# Altium integrated library TI Amplifiers and Linear Special Function Amplifier.IntLib: 708 symbols (part 15 of 47)
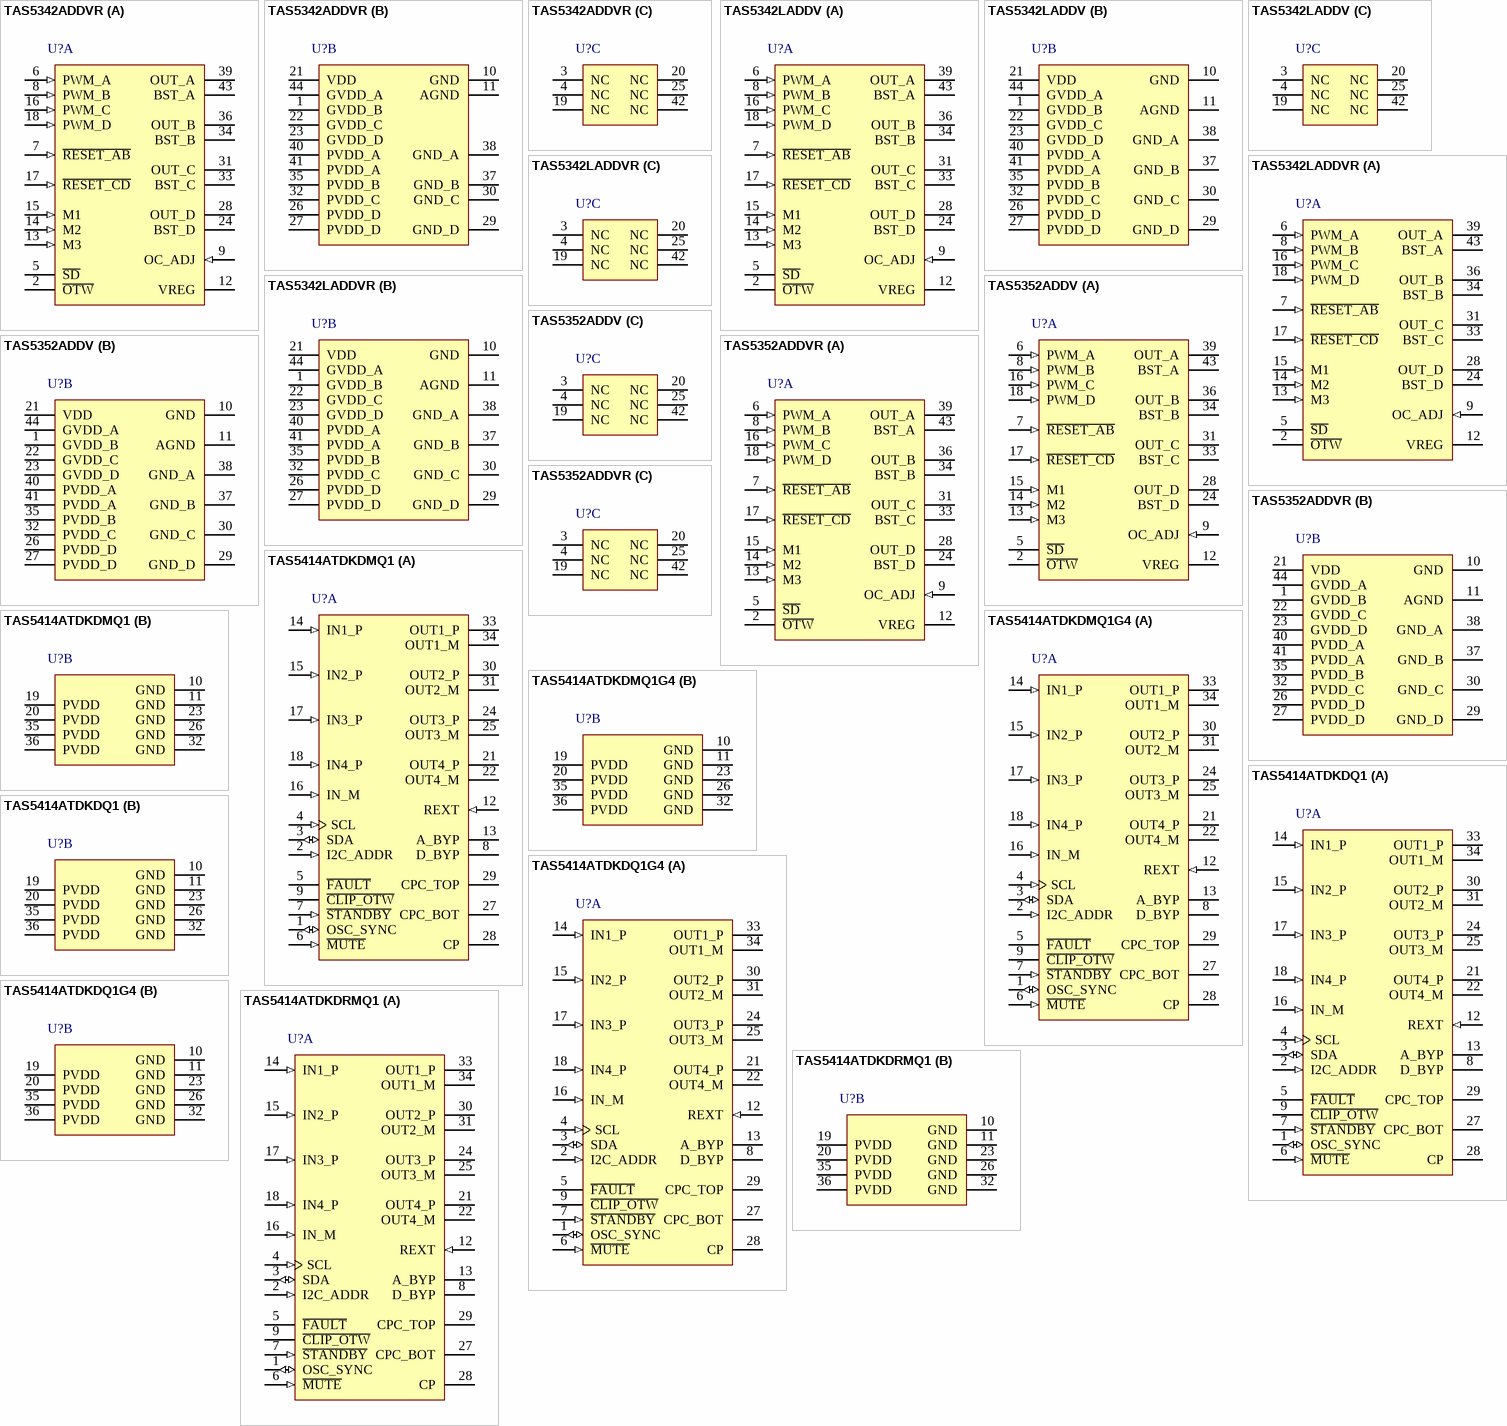
[diagram p53: symbols TAS5342ADDVR to TAS5414ATDKDRMQ1]

## TAS5414ATDKDQ1G4
designator U?
4-Channel Automotive Digital Amplifier, -40 to 105 degC, 36-pin SOP (DKD36), Green (RoHS & no Sb/Br); Manufacturer: Texas Instruments; PartNumber: TAS5414ATDKDQ1G4; Analog Supply Max [V]: 26.5; Analog Supply Min [V]: 6; Input Type: Analog; Max. Number of Speaker Outputs: 4; SubFamily: Mid/High-Power Amplifier; DatasheetVersion: SLOS535C; PackageVersion: 4204421-2/K, 06/2012; PackageReference: DKD36; PackageDescription: 36-Pin Plastic Small Outline, Body 15.9 x 11 mm, Pitch 0.65 mm; Supplier 1: Digi-Key; Supplier Part Number 1: TAS5414ATDKDQ1G4-ND; Supplier 2: Mouser; Supplier Part Number 2: 595-TAS5414ATDKDQ1G4; Eco-Plan: Green (RoHS & no Sb/Br); Power Stage Supply Min(V): 6; Mounting Technology: Surface Mount; ComponentLink1Description: Manufacturer URL; ComponentLink1URL: http://www.ti.com/; ComponentLink2Description: Datasheet; ComponentLink2URL: http://www.ti.com/general/docs/lit/getliterature.tsp?genericPartNumber=TAS5414A&fileType=pdf; ComponentLink3Description: Package Specification; ComponentLink3URL: http://www.ti.com/lit/ds/symlink/tas5121i.pdf
footprint TI-DKD36_N (SOP, 36-Leads, Body 16x11.1mm, Pitch 0.65mm, IPC Medium Density)
footprint TI-DKD36_L (SOP, 36-Leads, Body 16x11.1mm, Pitch 0.65mm, IPC High Density)
footprint TI-DKD36_M (SOP, 36-Leads, Body 16x11.1mm, Pitch 0.65mm, IPC Low Density)
part A pins: 1 OSC_SYNC (io) "Oscillator sync input from master or output to slave amplifiers (20 MHz divided by 5, 6, or 7)", 2 I2C_ADDR (in) "I2C address bit", 3 SDA (io) "I2C data I/O for communication with system I2C master", 4 SCL (in) "I2C clock input from system I2C master", 5 ~{FAULT} (oc) "Global fault output (open drain): UV, OV, OTSD, OCSD, DC", 6 ~{MUTE} (in) "Gain ramp control: mute (low), play (high)", 7 ~{STANDBY} (in) "Active-low STANDBY pin. Standby (low), power up (high)", 8 D_BYP "Bypass pin for DVDD regulator output", 9 ~{CLIP_OTW} (oc) "Open-drain CLIP, OTW, or logical OR of the CLIP and OTW outputs. It also reports tweeter detection during tweeter mode.", 12 REXT (in) "Precision resistor pin to set analog reference", 13 A_BYP "Bypass pin for the AVDD analog regulator", 14 IN1_P (in) "Non-inverting analog input for channel 1", 15 IN2_P (in) "Non-inverting analog input for channel 2", 16 IN_M (in) "Signal return for the 4 analog channel inputs (TAS5414A only)", 17 IN3_P (in) "Non-inverting analog input for channel 3", 18 IN4_P (in) "Non-inverting analog input for channel 4", 21 OUT4_P (hiz) "+ polarity output for bridge 4", 22 OUT4_M (hiz) "- polarity output for bridge 4", 24 OUT3_P (hiz) "+ polarity output for bridge 3", 25 OUT3_M (hiz) "- polarity output for bridge 3", 27 CPC_BOT "Bottom of flying capacitor for charge pump", 28 CP "Top of main storage capacitor for charge pump (bottom goes to PVDD)", 29 CPC_TOP "Top of flying capacitor for charge pump", 30 OUT2_P (hiz) "+ polarity output for bridge 2", 31 OUT2_M (hiz) "- polarity output for bridge 2", 33 OUT1_P (hiz) "+ polarity output for bridge 1", 34 OUT1_M (hiz) "- polarity output for bridge 1"
part B pins: 10 GND (power) "Ground", 11 GND (power) "Ground", 19 PVDD (power) "PVDD supply", 20 PVDD (power) "PVDD supply", 23 GND (power) "Ground", 26 GND (power) "Ground", 32 GND (power) "Ground", 35 PVDD (power) "PVDD supply", 36 PVDD (power) "PVDD supply"

## TAS5414ATDKDRMQ1
designator U?
4-Channel Automotive Digital Amplifier, -40 to 105 degC, 36-pin SOP (DKD36), Green (RoHS & no Sb/Br); Manufacturer: Texas Instruments; PartNumber: TAS5414ATDKDRMQ1; Analog Supply Max [V]: 26.5; Analog Supply Min [V]: 6; Input Type: Analog; Max. Number of Speaker Outputs: 4; SubFamily: Mid/High-Power Amplifier; DatasheetVersion: SLOS535C; PackageVersion: 4204421-2/K, 06/2012; PackageReference: DKD36; PackageDescription: 36-Pin Plastic Small Outline, Body 15.9 x 11 mm, Pitch 0.65 mm; Supplier 1: Digi-Key; Supplier Part Number 1: TAS5414ATDKDRMQ1-ND; Supplier 2: Mouser; Supplier Part Number 2: 595-TAS5414ATDKDRMQ1; Eco-Plan: Green (RoHS & no Sb/Br); Power Stage Supply Min(V): 6; Mounting Technology: Surface Mount; ComponentLink1Description: Manufacturer URL; ComponentLink1URL: http://www.ti.com/; ComponentLink2Description: Datasheet; ComponentLink2URL: http://www.ti.com/general/docs/lit/getliterature.tsp?genericPartNumber=TAS5414A&fileType=pdf; ComponentLink3Description: Package Specification; ComponentLink3URL: http://www.ti.com/lit/ds/symlink/tas5121i.pdf
footprint TI-DKD36_N (SOP, 36-Leads, Body 16x11.1mm, Pitch 0.65mm, IPC Medium Density)
footprint TI-DKD36_L (SOP, 36-Leads, Body 16x11.1mm, Pitch 0.65mm, IPC High Density)
footprint TI-DKD36_M (SOP, 36-Leads, Body 16x11.1mm, Pitch 0.65mm, IPC Low Density)
part A pins: 1 OSC_SYNC (io) "Oscillator sync input from master or output to slave amplifiers (20 MHz divided by 5, 6, or 7)", 2 I2C_ADDR (in) "I2C address bit", 3 SDA (io) "I2C data I/O for communication with system I2C master", 4 SCL (in) "I2C clock input from system I2C master", 5 ~{FAULT} (oc) "Global fault output (open drain): UV, OV, OTSD, OCSD, DC", 6 ~{MUTE} (in) "Gain ramp control: mute (low), play (high)", 7 ~{STANDBY} (in) "Active-low STANDBY pin. Standby (low), power up (high)", 8 D_BYP "Bypass pin for DVDD regulator output", 9 ~{CLIP_OTW} (oc) "Open-drain CLIP, OTW, or logical OR of the CLIP and OTW outputs. It also reports tweeter detection during tweeter mode.", 12 REXT (in) "Precision resistor pin to set analog reference", 13 A_BYP "Bypass pin for the AVDD analog regulator", 14 IN1_P (in) "Non-inverting analog input for channel 1", 15 IN2_P (in) "Non-inverting analog input for channel 2", 16 IN_M (in) "Signal return for the 4 analog channel inputs (TAS5414A only)", 17 IN3_P (in) "Non-inverting analog input for channel 3", 18 IN4_P (in) "Non-inverting analog input for channel 4", 21 OUT4_P (hiz) "+ polarity output for bridge 4", 22 OUT4_M (hiz) "- polarity output for bridge 4", 24 OUT3_P (hiz) "+ polarity output for bridge 3", 25 OUT3_M (hiz) "- polarity output for bridge 3", 27 CPC_BOT "Bottom of flying capacitor for charge pump", 28 CP "Top of main storage capacitor for charge pump (bottom goes to PVDD)", 29 CPC_TOP "Top of flying capacitor for charge pump", 30 OUT2_P (hiz) "+ polarity output for bridge 2", 31 OUT2_M (hiz) "- polarity output for bridge 2", 33 OUT1_P (hiz) "+ polarity output for bridge 1", 34 OUT1_M (hiz) "- polarity output for bridge 1"
part B pins: 10 GND (power) "Ground", 11 GND (power) "Ground", 19 PVDD (power) "PVDD supply", 20 PVDD (power) "PVDD supply", 23 GND (power) "Ground", 26 GND (power) "Ground", 32 GND (power) "Ground", 35 PVDD (power) "PVDD supply", 36 PVDD (power) "PVDD supply"

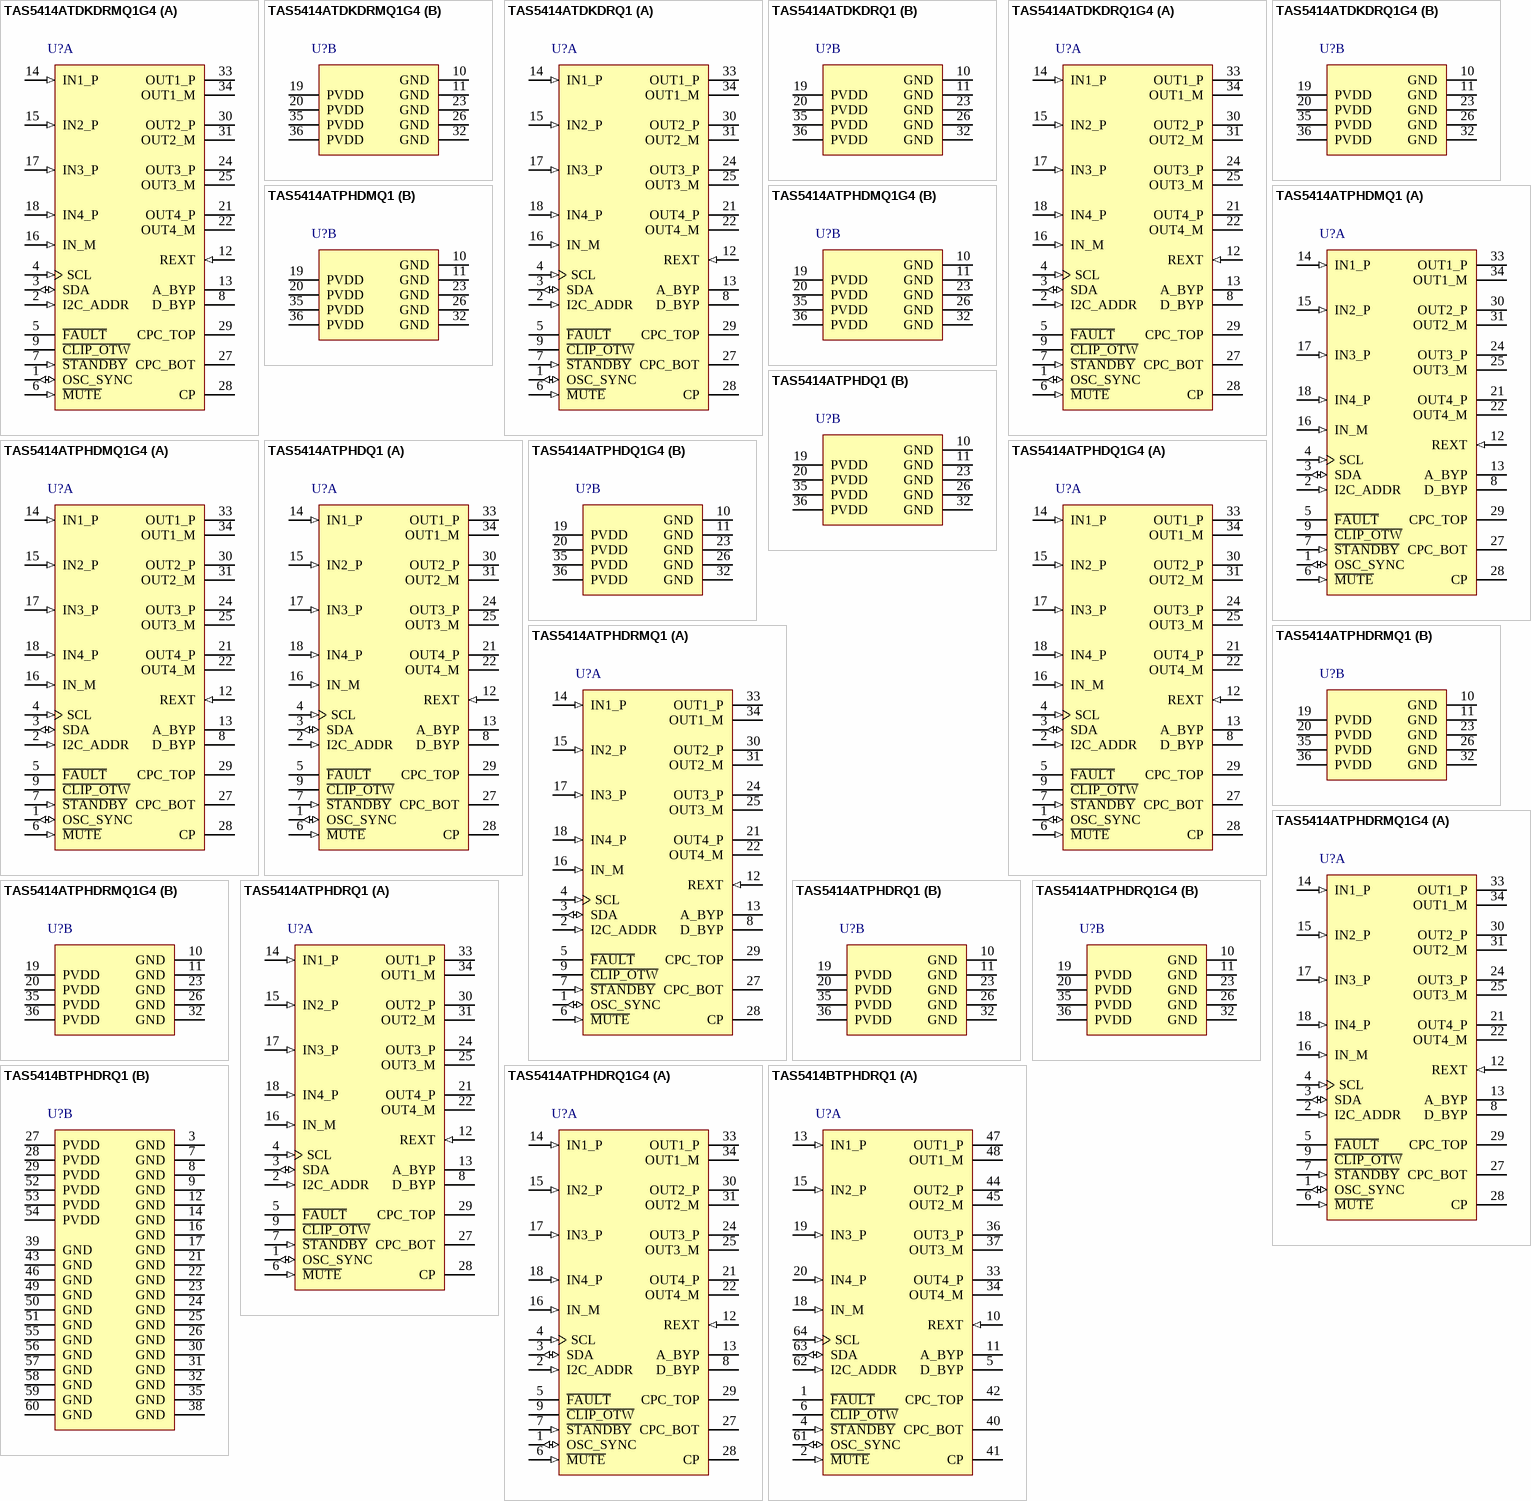
[diagram p14: symbols TAS5414ATDKDRMQ1G4 to TAS5414BTPHDRQ1]

## TAS5414ATDKDRMQ1G4
designator U?
4-Channel Automotive Digital Amplifier, -40 to 105 degC, 36-pin SOP (DKD36), Green (RoHS & no Sb/Br); Manufacturer: Texas Instruments; PartNumber: TAS5414ATDKDRMQ1G4; Analog Supply Max [V]: 26.5; Analog Supply Min [V]: 6; Input Type: Analog; Max. Number of Speaker Outputs: 4; SubFamily: Mid/High-Power Amplifier; DatasheetVersion: SLOS535C; PackageVersion: 4204421-2/K, 06/2012; PackageReference: DKD36; PackageDescription: 36-Pin Plastic Small Outline, Body 15.9 x 11 mm, Pitch 0.65 mm; Supplier 1: Digi-Key; Supplier Part Number 1: TAS5414ATDKDRMQ1G4-ND; Supplier 2: Mouser; Supplier Part Number 2: 595-T5414ATDKDRMQ1G4; Eco-Plan: Green (RoHS & no Sb/Br); Power Stage Supply Min(V): 6; Mounting Technology: Surface Mount; ComponentLink1Description: Manufacturer URL; ComponentLink1URL: http://www.ti.com/; ComponentLink2Description: Datasheet; ComponentLink2URL: http://www.ti.com/general/docs/lit/getliterature.tsp?genericPartNumber=TAS5414A&fileType=pdf; ComponentLink3Description: Package Specification; ComponentLink3URL: http://www.ti.com/lit/ds/symlink/tas5121i.pdf
footprint TI-DKD36_N (SOP, 36-Leads, Body 16x11.1mm, Pitch 0.65mm, IPC Medium Density)
footprint TI-DKD36_L (SOP, 36-Leads, Body 16x11.1mm, Pitch 0.65mm, IPC High Density)
footprint TI-DKD36_M (SOP, 36-Leads, Body 16x11.1mm, Pitch 0.65mm, IPC Low Density)
part A pins: 1 OSC_SYNC (io) "Oscillator sync input from master or output to slave amplifiers (20 MHz divided by 5, 6, or 7)", 2 I2C_ADDR (in) "I2C address bit", 3 SDA (io) "I2C data I/O for communication with system I2C master", 4 SCL (in) "I2C clock input from system I2C master", 5 ~{FAULT} (oc) "Global fault output (open drain): UV, OV, OTSD, OCSD, DC", 6 ~{MUTE} (in) "Gain ramp control: mute (low), play (high)", 7 ~{STANDBY} (in) "Active-low STANDBY pin. Standby (low), power up (high)", 8 D_BYP "Bypass pin for DVDD regulator output", 9 ~{CLIP_OTW} (oc) "Open-drain CLIP, OTW, or logical OR of the CLIP and OTW outputs. It also reports tweeter detection during tweeter mode.", 12 REXT (in) "Precision resistor pin to set analog reference", 13 A_BYP "Bypass pin for the AVDD analog regulator", 14 IN1_P (in) "Non-inverting analog input for channel 1", 15 IN2_P (in) "Non-inverting analog input for channel 2", 16 IN_M (in) "Signal return for the 4 analog channel inputs (TAS5414A only)", 17 IN3_P (in) "Non-inverting analog input for channel 3", 18 IN4_P (in) "Non-inverting analog input for channel 4", 21 OUT4_P (hiz) "+ polarity output for bridge 4", 22 OUT4_M (hiz) "- polarity output for bridge 4", 24 OUT3_P (hiz) "+ polarity output for bridge 3", 25 OUT3_M (hiz) "- polarity output for bridge 3", 27 CPC_BOT "Bottom of flying capacitor for charge pump", 28 CP "Top of main storage capacitor for charge pump (bottom goes to PVDD)", 29 CPC_TOP "Top of flying capacitor for charge pump", 30 OUT2_P (hiz) "+ polarity output for bridge 2", 31 OUT2_M (hiz) "- polarity output for bridge 2", 33 OUT1_P (hiz) "+ polarity output for bridge 1", 34 OUT1_M (hiz) "- polarity output for bridge 1"
part B pins: 10 GND (power) "Ground", 11 GND (power) "Ground", 19 PVDD (power) "PVDD supply", 20 PVDD (power) "PVDD supply", 23 GND (power) "Ground", 26 GND (power) "Ground", 32 GND (power) "Ground", 35 PVDD (power) "PVDD supply", 36 PVDD (power) "PVDD supply"

## TAS5414ATDKDRQ1
designator U?
4-Channel Automotive Digital Amplifier, -40 to 105 degC, 36-pin SOP (DKD36), Green (RoHS & no Sb/Br); Manufacturer: Texas Instruments; PartNumber: TAS5414ATDKDRQ1; Analog Supply Max [V]: 26.5; Analog Supply Min [V]: 6; Input Type: Analog; Max. Number of Speaker Outputs: 4; SubFamily: Mid/High-Power Amplifier; DatasheetVersion: SLOS535C; PackageVersion: 4204421-2/K, 06/2012; PackageReference: DKD36; PackageDescription: 36-Pin Plastic Small Outline, Body 15.9 x 11 mm, Pitch 0.65 mm; Supplier 1: Digi-Key; Supplier Part Number 1: TAS5414ATDKDRQ1-ND; Supplier 2: Mouser; Supplier Part Number 2: 595-TAS5414ATDKDRQ1; Eco-Plan: Green (RoHS & no Sb/Br); Power Stage Supply Min(V): 6; Mounting Technology: Surface Mount; ComponentLink1Description: Manufacturer URL; ComponentLink1URL: http://www.ti.com/; ComponentLink2Description: Datasheet; ComponentLink2URL: http://www.ti.com/general/docs/lit/getliterature.tsp?genericPartNumber=TAS5414A&fileType=pdf; ComponentLink3Description: Package Specification; ComponentLink3URL: http://www.ti.com/lit/ds/symlink/tas5121i.pdf
footprint TI-DKD36_N (SOP, 36-Leads, Body 16x11.1mm, Pitch 0.65mm, IPC Medium Density)
footprint TI-DKD36_L (SOP, 36-Leads, Body 16x11.1mm, Pitch 0.65mm, IPC High Density)
footprint TI-DKD36_M (SOP, 36-Leads, Body 16x11.1mm, Pitch 0.65mm, IPC Low Density)
part A pins: 1 OSC_SYNC (io) "Oscillator sync input from master or output to slave amplifiers (20 MHz divided by 5, 6, or 7)", 2 I2C_ADDR (in) "I2C address bit", 3 SDA (io) "I2C data I/O for communication with system I2C master", 4 SCL (in) "I2C clock input from system I2C master", 5 ~{FAULT} (oc) "Global fault output (open drain): UV, OV, OTSD, OCSD, DC", 6 ~{MUTE} (in) "Gain ramp control: mute (low), play (high)", 7 ~{STANDBY} (in) "Active-low STANDBY pin. Standby (low), power up (high)", 8 D_BYP "Bypass pin for DVDD regulator output", 9 ~{CLIP_OTW} (oc) "Open-drain CLIP, OTW, or logical OR of the CLIP and OTW outputs. It also reports tweeter detection during tweeter mode.", 12 REXT (in) "Precision resistor pin to set analog reference", 13 A_BYP "Bypass pin for the AVDD analog regulator", 14 IN1_P (in) "Non-inverting analog input for channel 1", 15 IN2_P (in) "Non-inverting analog input for channel 2", 16 IN_M (in) "Signal return for the 4 analog channel inputs (TAS5414A only)", 17 IN3_P (in) "Non-inverting analog input for channel 3", 18 IN4_P (in) "Non-inverting analog input for channel 4", 21 OUT4_P (hiz) "+ polarity output for bridge 4", 22 OUT4_M (hiz) "- polarity output for bridge 4", 24 OUT3_P (hiz) "+ polarity output for bridge 3", 25 OUT3_M (hiz) "- polarity output for bridge 3", 27 CPC_BOT "Bottom of flying capacitor for charge pump", 28 CP "Top of main storage capacitor for charge pump (bottom goes to PVDD)", 29 CPC_TOP "Top of flying capacitor for charge pump", 30 OUT2_P (hiz) "+ polarity output for bridge 2", 31 OUT2_M (hiz) "- polarity output for bridge 2", 33 OUT1_P (hiz) "+ polarity output for bridge 1", 34 OUT1_M (hiz) "- polarity output for bridge 1"
part B pins: 10 GND (power) "Ground", 11 GND (power) "Ground", 19 PVDD (power) "PVDD supply", 20 PVDD (power) "PVDD supply", 23 GND (power) "Ground", 26 GND (power) "Ground", 32 GND (power) "Ground", 35 PVDD (power) "PVDD supply", 36 PVDD (power) "PVDD supply"

## TAS5414ATDKDRQ1G4
designator U?
4-Channel Automotive Digital Amplifier, -40 to 105 degC, 36-pin SOP (DKD36), Green (RoHS & no Sb/Br); Manufacturer: Texas Instruments; PartNumber: TAS5414ATDKDRQ1G4; Analog Supply Max [V]: 26.5; Analog Supply Min [V]: 6; Input Type: Analog; Max. Number of Speaker Outputs: 4; SubFamily: Mid/High-Power Amplifier; DatasheetVersion: SLOS535C; PackageVersion: 4204421-2/K, 06/2012; PackageReference: DKD36; PackageDescription: 36-Pin Plastic Small Outline, Body 15.9 x 11 mm, Pitch 0.65 mm; Supplier 1: Digi-Key; Supplier Part Number 1: TAS5414ATDKDRQ1G4-ND; Supplier 2: Mouser; Supplier Part Number 2: 595-TA5414ATDKDRQ1G4; Eco-Plan: Green (RoHS & no Sb/Br); Power Stage Supply Min(V): 6; Mounting Technology: Surface Mount; ComponentLink1Description: Manufacturer URL; ComponentLink1URL: http://www.ti.com/; ComponentLink2Description: Datasheet; ComponentLink2URL: http://www.ti.com/general/docs/lit/getliterature.tsp?genericPartNumber=TAS5414A&fileType=pdf; ComponentLink3Description: Package Specification; ComponentLink3URL: http://www.ti.com/lit/ds/symlink/tas5121i.pdf
footprint TI-DKD36_N (SOP, 36-Leads, Body 16x11.1mm, Pitch 0.65mm, IPC Medium Density)
footprint TI-DKD36_L (SOP, 36-Leads, Body 16x11.1mm, Pitch 0.65mm, IPC High Density)
footprint TI-DKD36_M (SOP, 36-Leads, Body 16x11.1mm, Pitch 0.65mm, IPC Low Density)
part A pins: 1 OSC_SYNC (io) "Oscillator sync input from master or output to slave amplifiers (20 MHz divided by 5, 6, or 7)", 2 I2C_ADDR (in) "I2C address bit", 3 SDA (io) "I2C data I/O for communication with system I2C master", 4 SCL (in) "I2C clock input from system I2C master", 5 ~{FAULT} (oc) "Global fault output (open drain): UV, OV, OTSD, OCSD, DC", 6 ~{MUTE} (in) "Gain ramp control: mute (low), play (high)", 7 ~{STANDBY} (in) "Active-low STANDBY pin. Standby (low), power up (high)", 8 D_BYP "Bypass pin for DVDD regulator output", 9 ~{CLIP_OTW} (oc) "Open-drain CLIP, OTW, or logical OR of the CLIP and OTW outputs. It also reports tweeter detection during tweeter mode.", 12 REXT (in) "Precision resistor pin to set analog reference", 13 A_BYP "Bypass pin for the AVDD analog regulator", 14 IN1_P (in) "Non-inverting analog input for channel 1", 15 IN2_P (in) "Non-inverting analog input for channel 2", 16 IN_M (in) "Signal return for the 4 analog channel inputs (TAS5414A only)", 17 IN3_P (in) "Non-inverting analog input for channel 3", 18 IN4_P (in) "Non-inverting analog input for channel 4", 21 OUT4_P (hiz) "+ polarity output for bridge 4", 22 OUT4_M (hiz) "- polarity output for bridge 4", 24 OUT3_P (hiz) "+ polarity output for bridge 3", 25 OUT3_M (hiz) "- polarity output for bridge 3", 27 CPC_BOT "Bottom of flying capacitor for charge pump", 28 CP "Top of main storage capacitor for charge pump (bottom goes to PVDD)", 29 CPC_TOP "Top of flying capacitor for charge pump", 30 OUT2_P (hiz) "+ polarity output for bridge 2", 31 OUT2_M (hiz) "- polarity output for bridge 2", 33 OUT1_P (hiz) "+ polarity output for bridge 1", 34 OUT1_M (hiz) "- polarity output for bridge 1"
part B pins: 10 GND (power) "Ground", 11 GND (power) "Ground", 19 PVDD (power) "PVDD supply", 20 PVDD (power) "PVDD supply", 23 GND (power) "Ground", 26 GND (power) "Ground", 32 GND (power) "Ground", 35 PVDD (power) "PVDD supply", 36 PVDD (power) "PVDD supply"

## TAS5414ATPHDMQ1
designator U?
4-Channel Automotive Digital Amplifier, -40 to 105 degC, 64-pin QFP (PHD64), Green (RoHS & no Sb/Br); Manufacturer: Texas Instruments; PartNumber: TAS5414ATPHDMQ1; Analog Supply Max [V]: 26.5; Analog Supply Min [V]: 6; Input Type: Analog; Max. Number of Speaker Outputs: 4; SubFamily: Mid/High-Power Amplifier; DatasheetVersion: SLOS535C; PackageVersion: 4087742/E, 10/2008; PackageReference: PHD64; PackageDescription: 64-Pin Plastic Flat Pack, Body 14 x 14 mm, Pitch 0.8 mm; Supplier 1: Digi-Key; Supplier Part Number 1: 296-23097-ND; Supplier 2: Mouser; Supplier Part Number 2: 595-TAS5414ATPHDMQ1; Eco-Plan: Green (RoHS & no Sb/Br); Power Stage Supply Min(V): 6; Mounting Technology: Surface Mount; Code_JEDEC: MS-026; ComponentLink1Description: Manufacturer URL; ComponentLink1URL: http://www.ti.com/; ComponentLink2Description: Datasheet; ComponentLink2URL: http://www.ti.com/general/docs/lit/getliterature.tsp?genericPartNumber=TAS5414A&fileType=pdf; ComponentLink3Description: Package Specification; ComponentLink3URL: http://www.ti.com/lit/ml/mpqf047d/mpqf047d.pdf
footprint TI-PHD64_N (QFP, 64-Leads, Body 14x14mm, Pitch 0.8mm, IPC Medium Density)
footprint TI-PHD64_L (QFP, 64-Leads, Body 14x14mm, Pitch 0.8mm, IPC High Density)
footprint TI-PHD64_M (QFP, 64-Leads, Body 14x14mm, Pitch 0.8mm, IPC Low Density)
part A pins: 1 OSC_SYNC (io) "Oscillator sync input from master or output to slave amplifiers (20 MHz divided by 5, 6, or 7)", 2 I2C_ADDR (in) "I2C address bit", 3 SDA (io) "I2C data I/O for communication with system I2C master", 4 SCL (in) "I2C clock input from system I2C master", 5 ~{FAULT} (oc) "Global fault output (open drain): UV, OV, OTSD, OCSD, DC", 6 ~{MUTE} (in) "Gain ramp control: mute (low), play (high)", 7 ~{STANDBY} (in) "Active-low STANDBY pin. Standby (low), power up (high)", 8 D_BYP "Bypass pin for DVDD regulator output", 9 ~{CLIP_OTW} (oc) "Open-drain CLIP, OTW, or logical OR of the CLIP and OTW outputs. It also reports tweeter detection during tweeter mode.", 12 REXT (in) "Precision resistor pin to set analog reference", 13 A_BYP "Bypass pin for the AVDD analog regulator", 14 IN1_P (in) "Non-inverting analog input for channel 1", 15 IN2_P (in) "Non-inverting analog input for channel 2", 16 IN_M (in) "Signal return for the 4 analog channel inputs (TAS5414A only)", 17 IN3_P (in) "Non-inverting analog input for channel 3", 18 IN4_P (in) "Non-inverting analog input for channel 4", 21 OUT4_P (hiz) "+ polarity output for bridge 4", 22 OUT4_M (hiz) "- polarity output for bridge 4", 24 OUT3_P (hiz) "+ polarity output for bridge 3", 25 OUT3_M (hiz) "- polarity output for bridge 3", 27 CPC_BOT "Bottom of flying capacitor for charge pump", 28 CP "Top of main storage capacitor for charge pump (bottom goes to PVDD)", 29 CPC_TOP "Top of flying capacitor for charge pump", 30 OUT2_P (hiz) "+ polarity output for bridge 2", 31 OUT2_M (hiz) "- polarity output for bridge 2", 33 OUT1_P (hiz) "+ polarity output for bridge 1", 34 OUT1_M (hiz) "- polarity output for bridge 1"
part B pins: 10 GND (power) "Ground", 11 GND (power) "Ground", 19 PVDD (power) "PVDD supply", 20 PVDD (power) "PVDD supply", 23 GND (power) "Ground", 26 GND (power) "Ground", 32 GND (power) "Ground", 35 PVDD (power) "PVDD supply", 36 PVDD (power) "PVDD supply"

## TAS5414ATPHDMQ1G4
designator U?
4-Channel Automotive Digital Amplifier, -40 to 105 degC, 64-pin QFP (PHD64), Green (RoHS & no Sb/Br); Manufacturer: Texas Instruments; PartNumber: TAS5414ATPHDMQ1G4; Analog Supply Max [V]: 26.5; Analog Supply Min [V]: 6; Input Type: Analog; Max. Number of Speaker Outputs: 4; SubFamily: Mid/High-Power Amplifier; DatasheetVersion: SLOS535C; PackageVersion: 4087742/E, 10/2008; PackageReference: PHD64; PackageDescription: 64-Pin Plastic Flat Pack, Body 14 x 14 mm, Pitch 0.8 mm; Supplier 1: Digi-Key; Supplier Part Number 1: TAS5414ATPHDMQ1G4-ND; Supplier 2: Mouser; Supplier Part Number 2: 595-AS5414ATPHDMQ1G4; Eco-Plan: Green (RoHS & no Sb/Br); Power Stage Supply Min(V): 6; Mounting Technology: Surface Mount; Code_JEDEC: MS-026; ComponentLink1Description: Manufacturer URL; ComponentLink1URL: http://www.ti.com/; ComponentLink2Description: Datasheet; ComponentLink2URL: http://www.ti.com/general/docs/lit/getliterature.tsp?genericPartNumber=TAS5414A&fileType=pdf; ComponentLink3Description: Package Specification; ComponentLink3URL: http://www.ti.com/lit/ml/mpqf047d/mpqf047d.pdf
footprint TI-PHD64_N (QFP, 64-Leads, Body 14x14mm, Pitch 0.8mm, IPC Medium Density)
footprint TI-PHD64_L (QFP, 64-Leads, Body 14x14mm, Pitch 0.8mm, IPC High Density)
footprint TI-PHD64_M (QFP, 64-Leads, Body 14x14mm, Pitch 0.8mm, IPC Low Density)
part A pins: 1 OSC_SYNC (io) "Oscillator sync input from master or output to slave amplifiers (20 MHz divided by 5, 6, or 7)", 2 I2C_ADDR (in) "I2C address bit", 3 SDA (io) "I2C data I/O for communication with system I2C master", 4 SCL (in) "I2C clock input from system I2C master", 5 ~{FAULT} (oc) "Global fault output (open drain): UV, OV, OTSD, OCSD, DC", 6 ~{MUTE} (in) "Gain ramp control: mute (low), play (high)", 7 ~{STANDBY} (in) "Active-low STANDBY pin. Standby (low), power up (high)", 8 D_BYP "Bypass pin for DVDD regulator output", 9 ~{CLIP_OTW} (oc) "Open-drain CLIP, OTW, or logical OR of the CLIP and OTW outputs. It also reports tweeter detection during tweeter mode.", 12 REXT (in) "Precision resistor pin to set analog reference", 13 A_BYP "Bypass pin for the AVDD analog regulator", 14 IN1_P (in) "Non-inverting analog input for channel 1", 15 IN2_P (in) "Non-inverting analog input for channel 2", 16 IN_M (in) "Signal return for the 4 analog channel inputs (TAS5414A only)", 17 IN3_P (in) "Non-inverting analog input for channel 3", 18 IN4_P (in) "Non-inverting analog input for channel 4", 21 OUT4_P (hiz) "+ polarity output for bridge 4", 22 OUT4_M (hiz) "- polarity output for bridge 4", 24 OUT3_P (hiz) "+ polarity output for bridge 3", 25 OUT3_M (hiz) "- polarity output for bridge 3", 27 CPC_BOT "Bottom of flying capacitor for charge pump", 28 CP "Top of main storage capacitor for charge pump (bottom goes to PVDD)", 29 CPC_TOP "Top of flying capacitor for charge pump", 30 OUT2_P (hiz) "+ polarity output for bridge 2", 31 OUT2_M (hiz) "- polarity output for bridge 2", 33 OUT1_P (hiz) "+ polarity output for bridge 1", 34 OUT1_M (hiz) "- polarity output for bridge 1"
part B pins: 10 GND (power) "Ground", 11 GND (power) "Ground", 19 PVDD (power) "PVDD supply", 20 PVDD (power) "PVDD supply", 23 GND (power) "Ground", 26 GND (power) "Ground", 32 GND (power) "Ground", 35 PVDD (power) "PVDD supply", 36 PVDD (power) "PVDD supply"

## TAS5414ATPHDQ1
designator U?
4-Channel Automotive Digital Amplifier, -40 to 105 degC, 64-pin QFP (PHD64), Green (RoHS & no Sb/Br); Manufacturer: Texas Instruments; PartNumber: TAS5414ATPHDQ1; Analog Supply Max [V]: 26.5; Analog Supply Min [V]: 6; Input Type: Analog; Max. Number of Speaker Outputs: 4; SubFamily: Mid/High-Power Amplifier; DatasheetVersion: SLOS535C; PackageVersion: 4087742/E, 10/2008; PackageReference: PHD64; PackageDescription: 64-Pin Plastic Flat Pack, Body 14 x 14 mm, Pitch 0.8 mm; Supplier 1: Digi-Key; Supplier Part Number 1: 296-23098-ND; Supplier 2: Newark; Supplier Part Number 2: 85M0128; Supplier 3: Mouser; Supplier Part Number 3: 595-TAS5414ATPHDQ1; Eco-Plan: Green (RoHS & no Sb/Br); Power Stage Supply Min(V): 6; Mounting Technology: Surface Mount; Code_JEDEC: MS-026; ComponentLink1Description: Manufacturer URL; ComponentLink1URL: http://www.ti.com/; ComponentLink2Description: Datasheet; ComponentLink2URL: http://www.ti.com/general/docs/lit/getliterature.tsp?genericPartNumber=TAS5414A&fileType=pdf; ComponentLink3Description: Package Specification; ComponentLink3URL: http://www.ti.com/lit/ml/mpqf047d/mpqf047d.pdf
footprint TI-PHD64_N (QFP, 64-Leads, Body 14x14mm, Pitch 0.8mm, IPC Medium Density)
footprint TI-PHD64_L (QFP, 64-Leads, Body 14x14mm, Pitch 0.8mm, IPC High Density)
footprint TI-PHD64_M (QFP, 64-Leads, Body 14x14mm, Pitch 0.8mm, IPC Low Density)
part A pins: 1 OSC_SYNC (io) "Oscillator sync input from master or output to slave amplifiers (20 MHz divided by 5, 6, or 7)", 2 I2C_ADDR (in) "I2C address bit", 3 SDA (io) "I2C data I/O for communication with system I2C master", 4 SCL (in) "I2C clock input from system I2C master", 5 ~{FAULT} (oc) "Global fault output (open drain): UV, OV, OTSD, OCSD, DC", 6 ~{MUTE} (in) "Gain ramp control: mute (low), play (high)", 7 ~{STANDBY} (in) "Active-low STANDBY pin. Standby (low), power up (high)", 8 D_BYP "Bypass pin for DVDD regulator output", 9 ~{CLIP_OTW} (oc) "Open-drain CLIP, OTW, or logical OR of the CLIP and OTW outputs. It also reports tweeter detection during tweeter mode.", 12 REXT (in) "Precision resistor pin to set analog reference", 13 A_BYP "Bypass pin for the AVDD analog regulator", 14 IN1_P (in) "Non-inverting analog input for channel 1", 15 IN2_P (in) "Non-inverting analog input for channel 2", 16 IN_M (in) "Signal return for the 4 analog channel inputs (TAS5414A only)", 17 IN3_P (in) "Non-inverting analog input for channel 3", 18 IN4_P (in) "Non-inverting analog input for channel 4", 21 OUT4_P (hiz) "+ polarity output for bridge 4", 22 OUT4_M (hiz) "- polarity output for bridge 4", 24 OUT3_P (hiz) "+ polarity output for bridge 3", 25 OUT3_M (hiz) "- polarity output for bridge 3", 27 CPC_BOT "Bottom of flying capacitor for charge pump", 28 CP "Top of main storage capacitor for charge pump (bottom goes to PVDD)", 29 CPC_TOP "Top of flying capacitor for charge pump", 30 OUT2_P (hiz) "+ polarity output for bridge 2", 31 OUT2_M (hiz) "- polarity output for bridge 2", 33 OUT1_P (hiz) "+ polarity output for bridge 1", 34 OUT1_M (hiz) "- polarity output for bridge 1"
part B pins: 10 GND (power) "Ground", 11 GND (power) "Ground", 19 PVDD (power) "PVDD supply", 20 PVDD (power) "PVDD supply", 23 GND (power) "Ground", 26 GND (power) "Ground", 32 GND (power) "Ground", 35 PVDD (power) "PVDD supply", 36 PVDD (power) "PVDD supply"

## TAS5414ATPHDQ1G4
designator U?
4-Channel Automotive Digital Amplifier, -40 to 105 degC, 64-pin QFP (PHD64), Green (RoHS & no Sb/Br); Manufacturer: Texas Instruments; PartNumber: TAS5414ATPHDQ1G4; Analog Supply Max [V]: 26.5; Analog Supply Min [V]: 6; Input Type: Analog; Max. Number of Speaker Outputs: 4; SubFamily: Mid/High-Power Amplifier; DatasheetVersion: SLOS535C; PackageVersion: 4087742/E, 10/2008; PackageReference: PHD64; PackageDescription: 64-Pin Plastic Flat Pack, Body 14 x 14 mm, Pitch 0.8 mm; Supplier 1: Digi-Key; Supplier Part Number 1: TAS5414ATPHDQ1G4-ND; Supplier 2: Mouser; Supplier Part Number 2: 595-TAS5414ATPHDQ1G4; Eco-Plan: Green (RoHS & no Sb/Br); Power Stage Supply Min(V): 6; Mounting Technology: Surface Mount; Code_JEDEC: MS-026; ComponentLink1Description: Manufacturer URL; ComponentLink1URL: http://www.ti.com/; ComponentLink2Description: Datasheet; ComponentLink2URL: http://www.ti.com/general/docs/lit/getliterature.tsp?genericPartNumber=TAS5414A&fileType=pdf; ComponentLink3Description: Package Specification; ComponentLink3URL: http://www.ti.com/lit/ml/mpqf047d/mpqf047d.pdf
footprint TI-PHD64_N (QFP, 64-Leads, Body 14x14mm, Pitch 0.8mm, IPC Medium Density)
footprint TI-PHD64_L (QFP, 64-Leads, Body 14x14mm, Pitch 0.8mm, IPC High Density)
footprint TI-PHD64_M (QFP, 64-Leads, Body 14x14mm, Pitch 0.8mm, IPC Low Density)
part A pins: 1 OSC_SYNC (io) "Oscillator sync input from master or output to slave amplifiers (20 MHz divided by 5, 6, or 7)", 2 I2C_ADDR (in) "I2C address bit", 3 SDA (io) "I2C data I/O for communication with system I2C master", 4 SCL (in) "I2C clock input from system I2C master", 5 ~{FAULT} (oc) "Global fault output (open drain): UV, OV, OTSD, OCSD, DC", 6 ~{MUTE} (in) "Gain ramp control: mute (low), play (high)", 7 ~{STANDBY} (in) "Active-low STANDBY pin. Standby (low), power up (high)", 8 D_BYP "Bypass pin for DVDD regulator output", 9 ~{CLIP_OTW} (oc) "Open-drain CLIP, OTW, or logical OR of the CLIP and OTW outputs. It also reports tweeter detection during tweeter mode.", 12 REXT (in) "Precision resistor pin to set analog reference", 13 A_BYP "Bypass pin for the AVDD analog regulator", 14 IN1_P (in) "Non-inverting analog input for channel 1", 15 IN2_P (in) "Non-inverting analog input for channel 2", 16 IN_M (in) "Signal return for the 4 analog channel inputs (TAS5414A only)", 17 IN3_P (in) "Non-inverting analog input for channel 3", 18 IN4_P (in) "Non-inverting analog input for channel 4", 21 OUT4_P (hiz) "+ polarity output for bridge 4", 22 OUT4_M (hiz) "- polarity output for bridge 4", 24 OUT3_P (hiz) "+ polarity output for bridge 3", 25 OUT3_M (hiz) "- polarity output for bridge 3", 27 CPC_BOT "Bottom of flying capacitor for charge pump", 28 CP "Top of main storage capacitor for charge pump (bottom goes to PVDD)", 29 CPC_TOP "Top of flying capacitor for charge pump", 30 OUT2_P (hiz) "+ polarity output for bridge 2", 31 OUT2_M (hiz) "- polarity output for bridge 2", 33 OUT1_P (hiz) "+ polarity output for bridge 1", 34 OUT1_M (hiz) "- polarity output for bridge 1"
part B pins: 10 GND (power) "Ground", 11 GND (power) "Ground", 19 PVDD (power) "PVDD supply", 20 PVDD (power) "PVDD supply", 23 GND (power) "Ground", 26 GND (power) "Ground", 32 GND (power) "Ground", 35 PVDD (power) "PVDD supply", 36 PVDD (power) "PVDD supply"

## TAS5414ATPHDRMQ1
designator U?
4-Channel Automotive Digital Amplifier, -40 to 105 degC, 64-pin QFP (PHD64), Green (RoHS & no Sb/Br); Manufacturer: Texas Instruments; PartNumber: TAS5414ATPHDRMQ1; Analog Supply Max [V]: 26.5; Analog Supply Min [V]: 6; Input Type: Analog; Max. Number of Speaker Outputs: 4; SubFamily: Mid/High-Power Amplifier; DatasheetVersion: SLOS535C; PackageVersion: 4087742/E, 10/2008; PackageReference: PHD64; PackageDescription: 64-Pin Plastic Flat Pack, Body 14 x 14 mm, Pitch 0.8 mm; Supplier 1: Digi-Key; Supplier Part Number 1: TAS5414ATPHDRMQ1-ND; Supplier 2: Newark; Supplier Part Number 2: 85M0129; Supplier 3: Mouser; Supplier Part Number 3: 595-TAS5414ATPHDRMQ1; Eco-Plan: Green (RoHS & no Sb/Br); Power Stage Supply Min(V): 6; Mounting Technology: Surface Mount; Code_JEDEC: MS-026; ComponentLink1Description: Manufacturer URL; ComponentLink1URL: http://www.ti.com/; ComponentLink2Description: Datasheet; ComponentLink2URL: http://www.ti.com/general/docs/lit/getliterature.tsp?genericPartNumber=TAS5414A&fileType=pdf; ComponentLink3Description: Package Specification; ComponentLink3URL: http://www.ti.com/lit/ml/mpqf047d/mpqf047d.pdf
footprint TI-PHD64_N (QFP, 64-Leads, Body 14x14mm, Pitch 0.8mm, IPC Medium Density)
footprint TI-PHD64_L (QFP, 64-Leads, Body 14x14mm, Pitch 0.8mm, IPC High Density)
footprint TI-PHD64_M (QFP, 64-Leads, Body 14x14mm, Pitch 0.8mm, IPC Low Density)
part A pins: 1 OSC_SYNC (io) "Oscillator sync input from master or output to slave amplifiers (20 MHz divided by 5, 6, or 7)", 2 I2C_ADDR (in) "I2C address bit", 3 SDA (io) "I2C data I/O for communication with system I2C master", 4 SCL (in) "I2C clock input from system I2C master", 5 ~{FAULT} (oc) "Global fault output (open drain): UV, OV, OTSD, OCSD, DC", 6 ~{MUTE} (in) "Gain ramp control: mute (low), play (high)", 7 ~{STANDBY} (in) "Active-low STANDBY pin. Standby (low), power up (high)", 8 D_BYP "Bypass pin for DVDD regulator output", 9 ~{CLIP_OTW} (oc) "Open-drain CLIP, OTW, or logical OR of the CLIP and OTW outputs. It also reports tweeter detection during tweeter mode.", 12 REXT (in) "Precision resistor pin to set analog reference", 13 A_BYP "Bypass pin for the AVDD analog regulator", 14 IN1_P (in) "Non-inverting analog input for channel 1", 15 IN2_P (in) "Non-inverting analog input for channel 2", 16 IN_M (in) "Signal return for the 4 analog channel inputs (TAS5414A only)", 17 IN3_P (in) "Non-inverting analog input for channel 3", 18 IN4_P (in) "Non-inverting analog input for channel 4", 21 OUT4_P (hiz) "+ polarity output for bridge 4", 22 OUT4_M (hiz) "- polarity output for bridge 4", 24 OUT3_P (hiz) "+ polarity output for bridge 3", 25 OUT3_M (hiz) "- polarity output for bridge 3", 27 CPC_BOT "Bottom of flying capacitor for charge pump", 28 CP "Top of main storage capacitor for charge pump (bottom goes to PVDD)", 29 CPC_TOP "Top of flying capacitor for charge pump", 30 OUT2_P (hiz) "+ polarity output for bridge 2", 31 OUT2_M (hiz) "- polarity output for bridge 2", 33 OUT1_P (hiz) "+ polarity output for bridge 1", 34 OUT1_M (hiz) "- polarity output for bridge 1"
part B pins: 10 GND (power) "Ground", 11 GND (power) "Ground", 19 PVDD (power) "PVDD supply", 20 PVDD (power) "PVDD supply", 23 GND (power) "Ground", 26 GND (power) "Ground", 32 GND (power) "Ground", 35 PVDD (power) "PVDD supply", 36 PVDD (power) "PVDD supply"

## TAS5414ATPHDRMQ1G4
designator U?
4-Channel Automotive Digital Amplifier, -40 to 105 degC, 64-pin QFP (PHD64), Green (RoHS & no Sb/Br); Manufacturer: Texas Instruments; PartNumber: TAS5414ATPHDRMQ1G4; Analog Supply Max [V]: 26.5; Analog Supply Min [V]: 6; Input Type: Analog; Max. Number of Speaker Outputs: 4; SubFamily: Mid/High-Power Amplifier; DatasheetVersion: SLOS535C; PackageVersion: 4087742/E, 10/2008; PackageReference: PHD64; PackageDescription: 64-Pin Plastic Flat Pack, Body 14 x 14 mm, Pitch 0.8 mm; Supplier 1: Digi-Key; Supplier Part Number 1: TAS5414ATPHDRMQ1G4-ND; Supplier 2: Mouser; Supplier Part Number 2: 595-S5414ATPHDRMQ1G4; Eco-Plan: Green (RoHS & no Sb/Br); Power Stage Supply Min(V): 6; Mounting Technology: Surface Mount; Code_JEDEC: MS-026; ComponentLink1Description: Manufacturer URL; ComponentLink1URL: http://www.ti.com/; ComponentLink2Description: Datasheet; ComponentLink2URL: http://www.ti.com/general/docs/lit/getliterature.tsp?genericPartNumber=TAS5414A&fileType=pdf; ComponentLink3Description: Package Specification; ComponentLink3URL: http://www.ti.com/lit/ml/mpqf047d/mpqf047d.pdf
footprint TI-PHD64_N (QFP, 64-Leads, Body 14x14mm, Pitch 0.8mm, IPC Medium Density)
footprint TI-PHD64_L (QFP, 64-Leads, Body 14x14mm, Pitch 0.8mm, IPC High Density)
footprint TI-PHD64_M (QFP, 64-Leads, Body 14x14mm, Pitch 0.8mm, IPC Low Density)
part A pins: 1 OSC_SYNC (io) "Oscillator sync input from master or output to slave amplifiers (20 MHz divided by 5, 6, or 7)", 2 I2C_ADDR (in) "I2C address bit", 3 SDA (io) "I2C data I/O for communication with system I2C master", 4 SCL (in) "I2C clock input from system I2C master", 5 ~{FAULT} (oc) "Global fault output (open drain): UV, OV, OTSD, OCSD, DC", 6 ~{MUTE} (in) "Gain ramp control: mute (low), play (high)", 7 ~{STANDBY} (in) "Active-low STANDBY pin. Standby (low), power up (high)", 8 D_BYP "Bypass pin for DVDD regulator output", 9 ~{CLIP_OTW} (oc) "Open-drain CLIP, OTW, or logical OR of the CLIP and OTW outputs. It also reports tweeter detection during tweeter mode.", 12 REXT (in) "Precision resistor pin to set analog reference", 13 A_BYP "Bypass pin for the AVDD analog regulator", 14 IN1_P (in) "Non-inverting analog input for channel 1", 15 IN2_P (in) "Non-inverting analog input for channel 2", 16 IN_M (in) "Signal return for the 4 analog channel inputs (TAS5414A only)", 17 IN3_P (in) "Non-inverting analog input for channel 3", 18 IN4_P (in) "Non-inverting analog input for channel 4", 21 OUT4_P (hiz) "+ polarity output for bridge 4", 22 OUT4_M (hiz) "- polarity output for bridge 4", 24 OUT3_P (hiz) "+ polarity output for bridge 3", 25 OUT3_M (hiz) "- polarity output for bridge 3", 27 CPC_BOT "Bottom of flying capacitor for charge pump", 28 CP "Top of main storage capacitor for charge pump (bottom goes to PVDD)", 29 CPC_TOP "Top of flying capacitor for charge pump", 30 OUT2_P (hiz) "+ polarity output for bridge 2", 31 OUT2_M (hiz) "- polarity output for bridge 2", 33 OUT1_P (hiz) "+ polarity output for bridge 1", 34 OUT1_M (hiz) "- polarity output for bridge 1"
part B pins: 10 GND (power) "Ground", 11 GND (power) "Ground", 19 PVDD (power) "PVDD supply", 20 PVDD (power) "PVDD supply", 23 GND (power) "Ground", 26 GND (power) "Ground", 32 GND (power) "Ground", 35 PVDD (power) "PVDD supply", 36 PVDD (power) "PVDD supply"

## TAS5414ATPHDRQ1
designator U?
4-Channel Automotive Digital Amplifier, -40 to 105 degC, 64-pin QFP (PHD64), Green (RoHS & no Sb/Br); Manufacturer: Texas Instruments; PartNumber: TAS5414ATPHDRQ1; Analog Supply Max [V]: 26.5; Analog Supply Min [V]: 6; Input Type: Analog; Max. Number of Speaker Outputs: 4; SubFamily: Mid/High-Power Amplifier; DatasheetVersion: SLOS535C; PackageVersion: 4087742/E, 10/2008; PackageReference: PHD64; PackageDescription: 64-Pin Plastic Flat Pack, Body 14 x 14 mm, Pitch 0.8 mm; Supplier 1: Digi-Key; Supplier Part Number 1: TAS5414ATPHDRQ1-ND; Supplier 2: Mouser; Supplier Part Number 2: 595-TAS5414ATPHDRQ1; Eco-Plan: Green (RoHS & no Sb/Br); Power Stage Supply Min(V): 6; Mounting Technology: Surface Mount; Code_JEDEC: MS-026; ComponentLink1Description: Manufacturer URL; ComponentLink1URL: http://www.ti.com/; ComponentLink2Description: Datasheet; ComponentLink2URL: http://www.ti.com/general/docs/lit/getliterature.tsp?genericPartNumber=TAS5414A&fileType=pdf; ComponentLink3Description: Package Specification; ComponentLink3URL: http://www.ti.com/lit/ml/mpqf047d/mpqf047d.pdf
footprint TI-PHD64_N (QFP, 64-Leads, Body 14x14mm, Pitch 0.8mm, IPC Medium Density)
footprint TI-PHD64_L (QFP, 64-Leads, Body 14x14mm, Pitch 0.8mm, IPC High Density)
footprint TI-PHD64_M (QFP, 64-Leads, Body 14x14mm, Pitch 0.8mm, IPC Low Density)
part A pins: 1 OSC_SYNC (io) "Oscillator sync input from master or output to slave amplifiers (20 MHz divided by 5, 6, or 7)", 2 I2C_ADDR (in) "I2C address bit", 3 SDA (io) "I2C data I/O for communication with system I2C master", 4 SCL (in) "I2C clock input from system I2C master", 5 ~{FAULT} (oc) "Global fault output (open drain): UV, OV, OTSD, OCSD, DC", 6 ~{MUTE} (in) "Gain ramp control: mute (low), play (high)", 7 ~{STANDBY} (in) "Active-low STANDBY pin. Standby (low), power up (high)", 8 D_BYP "Bypass pin for DVDD regulator output", 9 ~{CLIP_OTW} (oc) "Open-drain CLIP, OTW, or logical OR of the CLIP and OTW outputs. It also reports tweeter detection during tweeter mode.", 12 REXT (in) "Precision resistor pin to set analog reference", 13 A_BYP "Bypass pin for the AVDD analog regulator", 14 IN1_P (in) "Non-inverting analog input for channel 1", 15 IN2_P (in) "Non-inverting analog input for channel 2", 16 IN_M (in) "Signal return for the 4 analog channel inputs (TAS5414A only)", 17 IN3_P (in) "Non-inverting analog input for channel 3", 18 IN4_P (in) "Non-inverting analog input for channel 4", 21 OUT4_P (hiz) "+ polarity output for bridge 4", 22 OUT4_M (hiz) "- polarity output for bridge 4", 24 OUT3_P (hiz) "+ polarity output for bridge 3", 25 OUT3_M (hiz) "- polarity output for bridge 3", 27 CPC_BOT "Bottom of flying capacitor for charge pump", 28 CP "Top of main storage capacitor for charge pump (bottom goes to PVDD)", 29 CPC_TOP "Top of flying capacitor for charge pump", 30 OUT2_P (hiz) "+ polarity output for bridge 2", 31 OUT2_M (hiz) "- polarity output for bridge 2", 33 OUT1_P (hiz) "+ polarity output for bridge 1", 34 OUT1_M (hiz) "- polarity output for bridge 1"
part B pins: 10 GND (power) "Ground", 11 GND (power) "Ground", 19 PVDD (power) "PVDD supply", 20 PVDD (power) "PVDD supply", 23 GND (power) "Ground", 26 GND (power) "Ground", 32 GND (power) "Ground", 35 PVDD (power) "PVDD supply", 36 PVDD (power) "PVDD supply"

## TAS5414ATPHDRQ1G4
designator U?
4-Channel Automotive Digital Amplifier, -40 to 105 degC, 64-pin QFP (PHD64), Green (RoHS & no Sb/Br); Manufacturer: Texas Instruments; PartNumber: TAS5414ATPHDRQ1G4; Analog Supply Max [V]: 26.5; Analog Supply Min [V]: 6; Input Type: Analog; Max. Number of Speaker Outputs: 4; SubFamily: Mid/High-Power Amplifier; DatasheetVersion: SLOS535C; PackageVersion: 4087742/E, 10/2008; PackageReference: PHD64; PackageDescription: 64-Pin Plastic Flat Pack, Body 14 x 14 mm, Pitch 0.8 mm; Supplier 1: Digi-Key; Supplier Part Number 1: TAS5414ATPHDRQ1G4-ND; Supplier 2: Mouser; Supplier Part Number 2: 595-AS5414ATPHDRQ1G4; Eco-Plan: Green (RoHS & no Sb/Br); Power Stage Supply Min(V): 6; Mounting Technology: Surface Mount; Code_JEDEC: MS-026; ComponentLink1Description: Manufacturer URL; ComponentLink1URL: http://www.ti.com/; ComponentLink2Description: Datasheet; ComponentLink2URL: http://www.ti.com/general/docs/lit/getliterature.tsp?genericPartNumber=TAS5414A&fileType=pdf; ComponentLink3Description: Package Specification; ComponentLink3URL: http://www.ti.com/lit/ml/mpqf047d/mpqf047d.pdf
footprint TI-PHD64_N (QFP, 64-Leads, Body 14x14mm, Pitch 0.8mm, IPC Medium Density)
footprint TI-PHD64_L (QFP, 64-Leads, Body 14x14mm, Pitch 0.8mm, IPC High Density)
footprint TI-PHD64_M (QFP, 64-Leads, Body 14x14mm, Pitch 0.8mm, IPC Low Density)
part A pins: 1 OSC_SYNC (io) "Oscillator sync input from master or output to slave amplifiers (20 MHz divided by 5, 6, or 7)", 2 I2C_ADDR (in) "I2C address bit", 3 SDA (io) "I2C data I/O for communication with system I2C master", 4 SCL (in) "I2C clock input from system I2C master", 5 ~{FAULT} (oc) "Global fault output (open drain): UV, OV, OTSD, OCSD, DC", 6 ~{MUTE} (in) "Gain ramp control: mute (low), play (high)", 7 ~{STANDBY} (in) "Active-low STANDBY pin. Standby (low), power up (high)", 8 D_BYP "Bypass pin for DVDD regulator output", 9 ~{CLIP_OTW} (oc) "Open-drain CLIP, OTW, or logical OR of the CLIP and OTW outputs. It also reports tweeter detection during tweeter mode.", 12 REXT (in) "Precision resistor pin to set analog reference", 13 A_BYP "Bypass pin for the AVDD analog regulator", 14 IN1_P (in) "Non-inverting analog input for channel 1", 15 IN2_P (in) "Non-inverting analog input for channel 2", 16 IN_M (in) "Signal return for the 4 analog channel inputs (TAS5414A only)", 17 IN3_P (in) "Non-inverting analog input for channel 3", 18 IN4_P (in) "Non-inverting analog input for channel 4", 21 OUT4_P (hiz) "+ polarity output for bridge 4", 22 OUT4_M (hiz) "- polarity output for bridge 4", 24 OUT3_P (hiz) "+ polarity output for bridge 3", 25 OUT3_M (hiz) "- polarity output for bridge 3", 27 CPC_BOT "Bottom of flying capacitor for charge pump", 28 CP "Top of main storage capacitor for charge pump (bottom goes to PVDD)", 29 CPC_TOP "Top of flying capacitor for charge pump", 30 OUT2_P (hiz) "+ polarity output for bridge 2", 31 OUT2_M (hiz) "- polarity output for bridge 2", 33 OUT1_P (hiz) "+ polarity output for bridge 1", 34 OUT1_M (hiz) "- polarity output for bridge 1"
part B pins: 10 GND (power) "Ground", 11 GND (power) "Ground", 19 PVDD (power) "PVDD supply", 20 PVDD (power) "PVDD supply", 23 GND (power) "Ground", 26 GND (power) "Ground", 32 GND (power) "Ground", 35 PVDD (power) "PVDD supply", 36 PVDD (power) "PVDD supply"

## TAS5414BTPHDRQ1
designator U?
4-Channel Automotive Digital Amplifier, -40 to 105 degC, 64-pin QFP (PHD64), Green (RoHS & no Sb/Br); Manufacturer: Texas Instruments; PartNumber: TAS5414BTPHDRQ1; Analog Supply Max [V]: 26.5; Analog Supply Min [V]: 6; Input Type: Analog; Max. Number of Speaker Outputs: 4; SubFamily: Mid/High-Power Amplifier; DatasheetVersion: SLOS673; PackageVersion: 4087742/E, 10/2008; PackageReference: PHD64; PackageDescription: 64-Pin Plastic Flat Pack, Body 14 x 14 mm, Pitch 0.8 mm; Supplier 1: Digi-Key; Supplier Part Number 1: 296-36731-2-ND; Supplier 2: Digi-Key; Supplier Part Number 2: 296-36731-1-ND; Supplier 3: Digi-Key; Supplier Part Number 3: 296-36731-6-ND; Supplier 4: Mouser; Supplier Part Number 4: 595-TAS5414BTPHDRQ1; Eco-Plan: Green (RoHS & no Sb/Br); Power Stage Supply Min(V): 6; Mounting Technology: Surface Mount; Code_JEDEC: MS-026; ComponentLink1Description: Manufacturer URL; ComponentLink1URL: http://www.ti.com/; ComponentLink2Description: Datasheet; ComponentLink2URL: http://www.ti.com/general/docs/lit/getliterature.tsp?genericPartNumber=TAS5414B-Q1&fileType=pdf; ComponentLink3Description: Package Specification; ComponentLink3URL: http://www.ti.com/lit/ml/mpqf047d/mpqf047d.pdf
footprint TI-PHD64_N (QFP, 64-Leads, Body 14x14mm, Pitch 0.8mm, IPC Medium Density)
footprint TI-PHD64_L (QFP, 64-Leads, Body 14x14mm, Pitch 0.8mm, IPC High Density)
footprint TI-PHD64_M (QFP, 64-Leads, Body 14x14mm, Pitch 0.8mm, IPC Low Density)
part A pins: 1 ~{FAULT} (oc) "Global fault output (open drain): UV, OV, OTSD, OCSD, DC", 2 ~{MUTE} (in) "Gain ramp control: mute (low), play (high)", 4 ~{STANDBY} (in) "Active-low STANDBY pin. Standby (low), power up (high)", 5 D_BYP "Bypass pin for DVDD regulator output", 6 ~{CLIP_OTW} (oc) "Reports CLIP, OTW, or both. It also reports tweeter detection during tweeter mode. Open-Drain.", 10 REXT (in) "Precision resistor pin to set analog reference", 11 A_BYP "Bypass pin for the AVDD analog regulator", 13 IN1_P (in) "Non-inverting analog input for channel 1", 15 IN2_P (in) "Non-inverting analog input for channel 2", 18 IN_M (in) "Signal return for the 4 analog channel inputs (TAS5414B-Q1 only)", 19 IN3_P (in) "Non-inverting analog input for channel 3", 20 IN4_P (in) "Non-inverting analog input for channel 4", 33 OUT4_P (hiz) "+ polarity output for bridge 4", 34 OUT4_M (hiz) "- polarity output for bridge 4", 36 OUT3_P (hiz) "+ polarity output for bridge 3", 37 OUT3_M (hiz) "- polarity output for bridge 3", 40 CPC_BOT "Bottom of flying capacitor for charge pump", 41 CP "Top of main storage capacitor for charge pump (bottom goes to PVDD)", 42 CPC_TOP "Top of flying capacitor for charge pump", 44 OUT2_P (hiz) "+ polarity output for bridge 2", 45 OUT2_M (hiz) "- polarity output for bridge 2", 47 OUT1_P (hiz) "+ polarity output for bridge 1", 48 OUT1_M (hiz) "-  polarity output for bridge 1", 61 OSC_SYNC (io) "Oscillator input from master or output to slave amplifiers", 62 I2C_ADDR (in) "I2C address bit", 63 SDA (io) "I2C data I/O for communication with system I2C master", 64 SCL (in) "I2C clock input from system I2C master"
part B pins: 3 GND (power) "Ground", 7 GND (power) "Ground", 8 GND (power) "Ground", 9 GND (power) "Ground", 12 GND (power) "Ground", 14 GND (power) "Ground", 16 GND (power) "Ground", 17 GND (power) "Ground", 21 GND (power) "Ground", 22 GND (power) "Ground", 23 GND (power) "Ground", 24 GND (power) "Ground", 25 GND (power) "Ground", 26 GND (power) "Ground", 27 PVDD (power) "PVDD supply", 28 PVDD (power) "PVDD supply", 29 PVDD (power) "PVDD supply", 30 GND (power) "Ground", 31 GND (power) "Ground", 32 GND (power) "Ground", 35 GND (power) "Ground", 38 GND (power) "Ground", 39 GND (power) "Ground", 43 GND (power) "Ground", 46 GND (power) "Ground", 49 GND (power) "Ground", 50 GND (power) "Ground", 51 GND (power) "Ground", 52 PVDD (power) "PVDD supply", 53 PVDD (power) "PVDD supply", 54 PVDD (power) "PVDD supply", 55 GND (power) "Ground", 56 GND (power) "Ground", 57 GND (power) "Ground", 58 GND (power) "Ground", 59 GND (power) "Ground", 60 GND (power) "Ground"

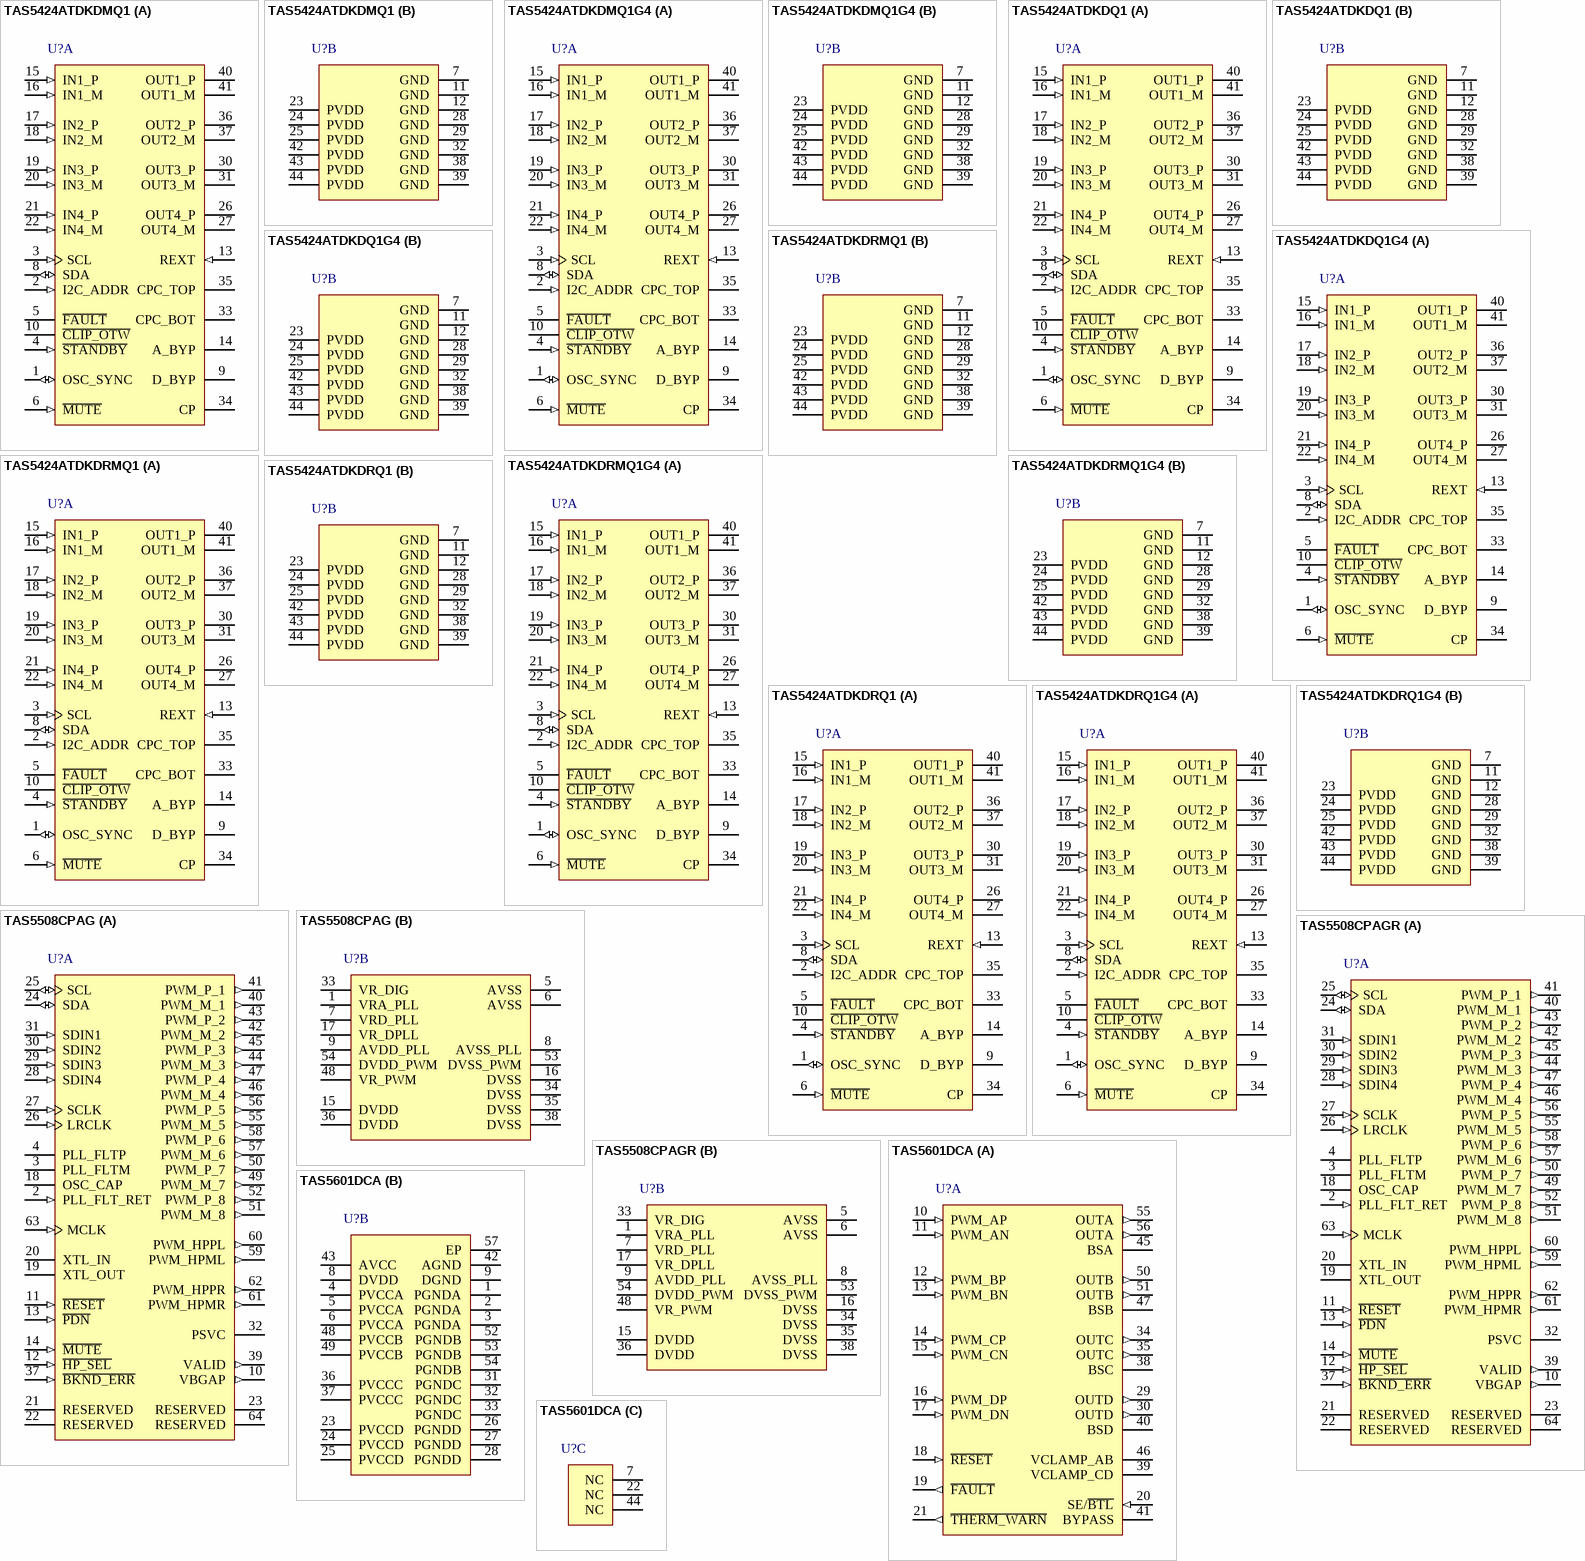
[diagram p15: symbols TAS5424ATDKDMQ1 to TAS5601DCA]